# Altium footprint library Oscillator.PcbLib: 2 footprints
Each footprint in its own frame and in the unit in brackets; x right, y up, seen from the top. Pads: shape width x height; smd on the part's side, far side on the other; paste and mask are expansions set on the pad; w line width, h text height; cw(c..) or ccw(c..) is an arc to the next point about the centre after c.
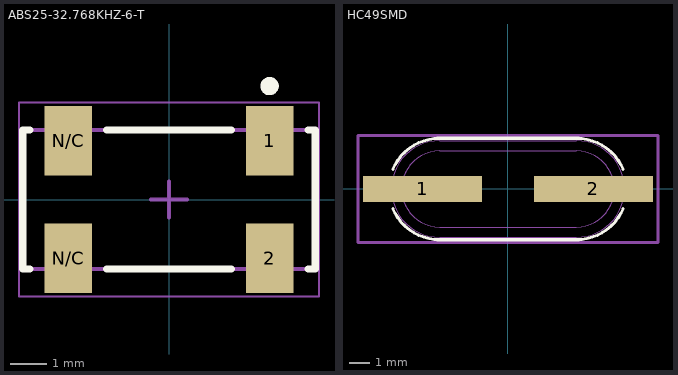
[diagram p0: the footprints below, top view; thin cyan lines are the x and y axes]

## ABS25-32.768KHZ-6-T [mm]
pads (4):
  rect 1.3x1.9 smd: 1(2.75,1.6) 2(2.75,-1.6) N/C(-2.75,-1.6) N/C(-2.75,1.6)
Top Overlay:
  circle w0.25: c2.75,3.1 r0.125
  lines w0.2: -3.8,-1.9 -4,-1.9 -4,1.9 -3.8,1.9 ; -1.7,-1.9 1.7,-1.9 ; -1.7,1.9 1.7,1.9 ; 3.8,-1.9 4,-1.9 4,1.9 3.8,1.9
Mechanical 13:
  lines w0.1: -4,-1.9 4,-1.9 4,1.9 -4,1.9 -4,-1.9
Mechanical 15:
  lines w0.05: -4.1,-2.65 4.1,-2.65 4.1,2.65 -4.1,2.65 -4.1,-2.65
  lines w0.1: -0.5,0 0.5,0 ; 0,-0.5 0,0.5
3D body "ABS25.STEP": height 2.66, standoff 0, extent -4,-2 4,2

## HC49SMD [mil]
pads (2):
  rect 233x51 smd paste+0 mask+0: 1(-167.5,0) 2(167.5,0)
Top Overlay:
  lines w6: -225.71,-38.6 ccw(c-134,0) -134,-99.5 ; -225.71,38.6 cw(c-134,0) -134,99.5 ; -139,-99.5 139,-99.5 ; -139,99.5 139,99.5 ; 134,-99.5 ccw(c134,0) 225.71,-38.6 ; 134,99.5 cw(c134,0) 225.71,38.6
Mechanical 13:
  lines w0: -134,-94.5 cw(c-134,0) -134,94.5 ; -134,-74.5 cw(c-134,0) -134,74.5 ; 134,-94.5 ccw(c134,0) 134,94.5 ; 134,-74.5 ccw(c134,0) 134,74.5
  lines w1: -134,-94.5 134,-94.5 ; -134,-74.5 134,-74.5 ; -134,74.5 134,74.5 ; -134,94.5 134,94.5
Mechanical 15:
  lines w6: -294,-104.5 -294,104.5 294,104.5 294,-104.5 -294,-104.5
3D body "XTAL_HC49SM_MTC.step": height 159.02, standoff 0, extent -264.02,-94.49 264.02,94.49